# EAGLE library part 3G04 (library ic-TI)
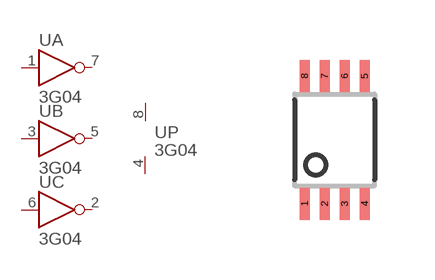
[diagram p25: symbol with the pads of US8; footprint US8]

Designator prefix U; gates A=LOGIC_INVETER B=LOGIC_INVETER C=LOGIC_INVETER P=LOGIC_PWR

## 3G04  [US8]
1  A:A
2  C:Y
3  B:A
4  P:GND
5  B:Y
6  C:A
7  A:Y
8  P:VCC

## Footprint US8 (pad centres in mm)
smd 0.25 x 0.8: 1 -0.75,-1.6; 2 -0.25,-1.6; 3 0.25,-1.6; 4 0.75,-1.6; 5 0.75,1.6; 6 0.25,1.6; 7 -0.25,1.6; 8 -0.75,1.6